# Altium integrated library TI Data Converters Digital to Analog Converter.IntLib: 1533 symbols (part 39 of 99)
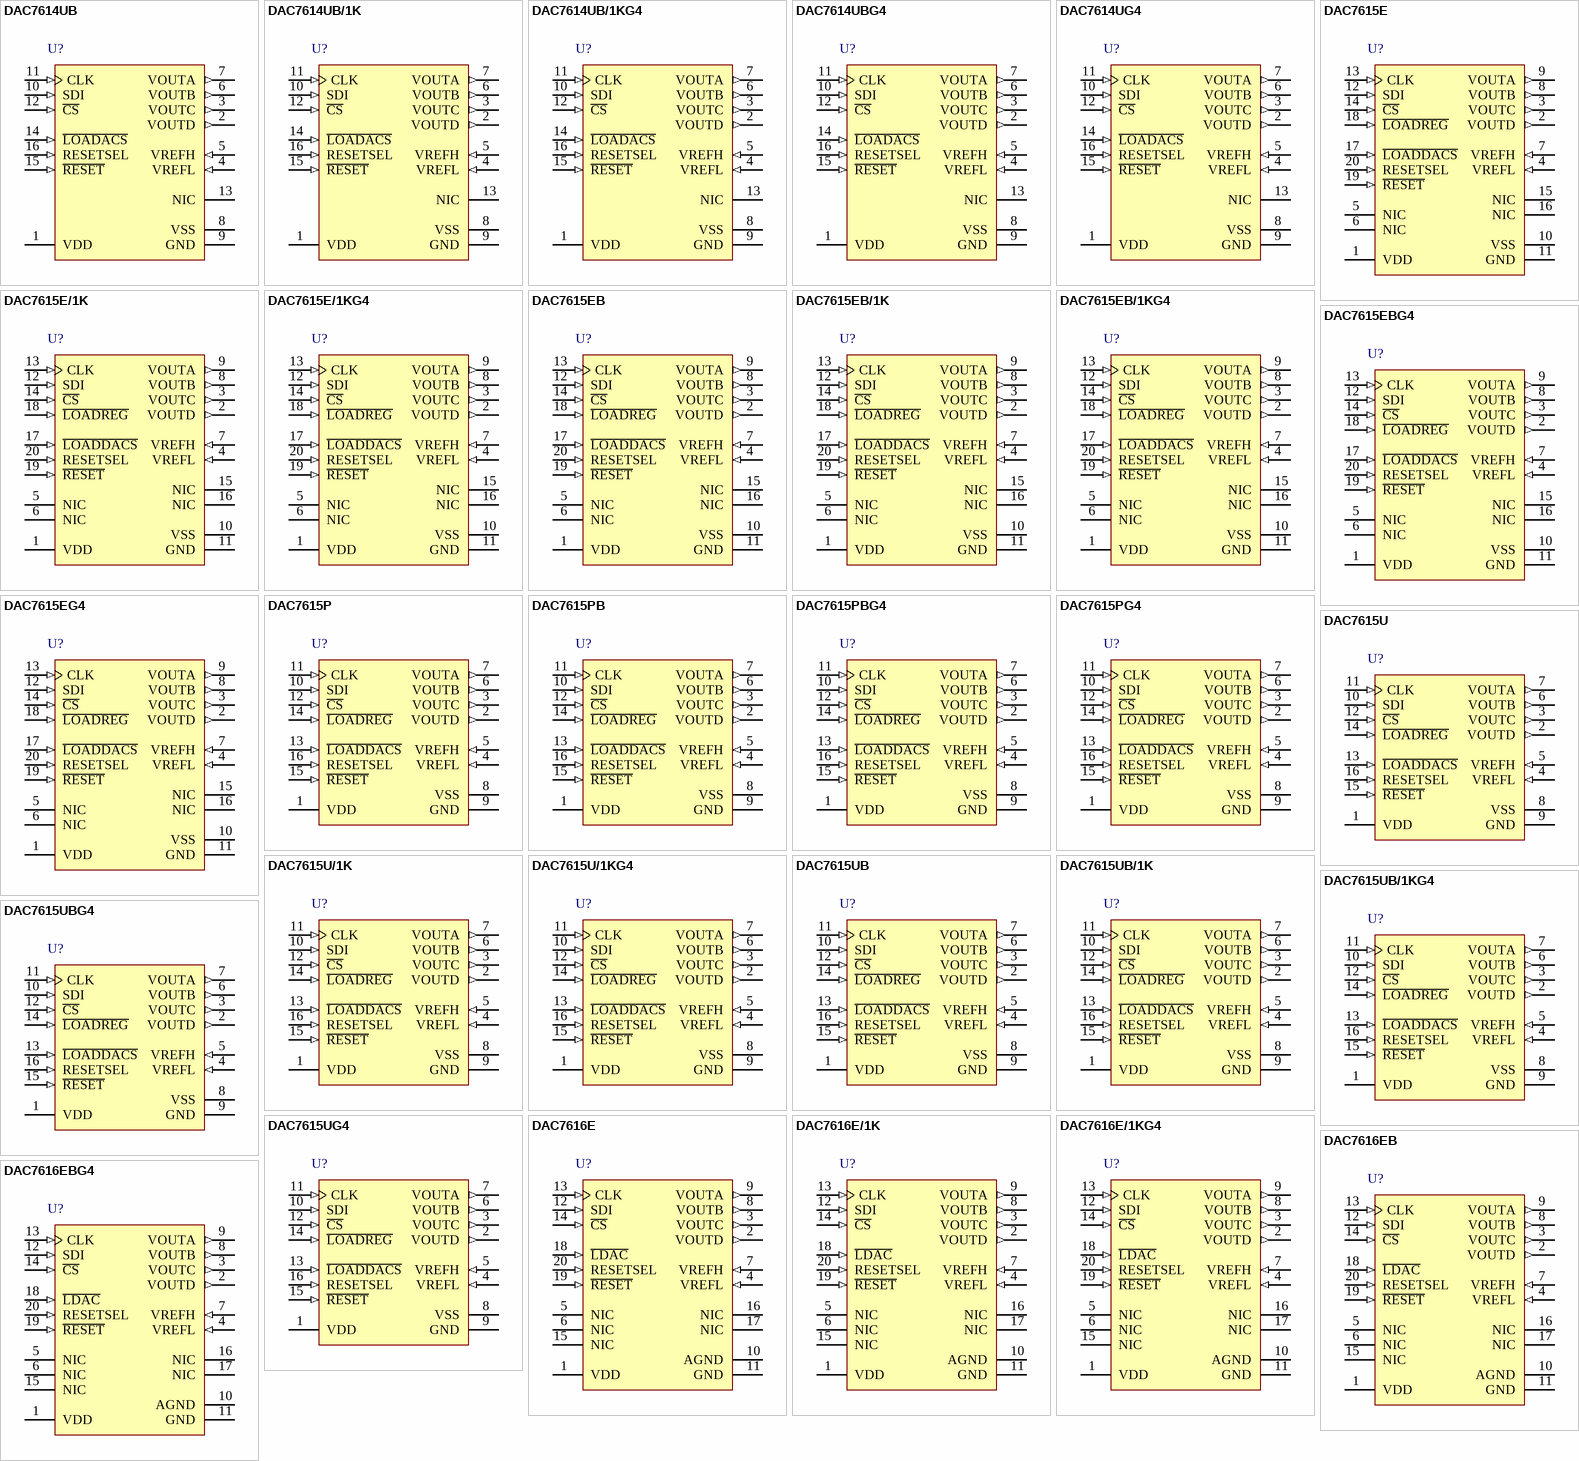
[diagram p111: symbols DAC7614UB to DAC7616EBG4]

## DAC7616E/1KG4
designator U?
Quad, Serial Input, 12-Bit, Voltage Output DAC, -40 to 85 degC, 20-pin SOP (DB20), Green (RoHS & no Sb/Br); Manufacturer: Texas Instruments; PartNumber: DAC7616E/1KG4; DAC Channels: 4; DNL(Max)(+/-LSB): 1; INL(Max)(+/-LSB): 2; Interface: Serial SPI; Power Consumption(Typ)(mW): 2.4; Resolution(Bits): 12; Settling Time(us): 10; SubFamily: Precision DAC (=<10MSPS); DatasheetVersion: SBAS186; PackageVersion: 4040065/E, 12/2001; PackageReference: DB20; PackageDescription: 20-Pin Plastic Small Outline, Body 5.3 x 7.2 mm, Pitch 0.65 mm; Supplier 1: Digi-Key; Supplier Part Number 1: DAC7616E/1KG4-ND; Supplier 2: Mouser; Supplier Part Number 2: 595-DAC7616E/1KG4; Eco-Plan: Green (RoHS & no Sb/Br); Mounting Technology: Surface Mount; Code_JEDEC: MO-150; ComponentLink1Description: Manufacturer URL; ComponentLink1URL: http://www.ti.com/; ComponentLink2Description: Datasheet; ComponentLink2URL: http://www.ti.com/general/docs/lit/getliterature.tsp?genericPartNumber=DAC7616&fileType=pdf; ComponentLink3Description: Package Specification; ComponentLink3URL: http://www.ti.com/lit/ml/msso002e/msso002e.pdf
footprint TI-DB20_N (SOP, 20-Leads, Body 7.2x5.3mm, Pitch 0.65mm, IPC Medium Density)
footprint TI-DB20_L (SOP, 20-Leads, Body 7.2x5.3mm, Pitch 0.65mm, IPC High Density)
footprint TI-DB20_M (SOP, 20-Leads, Body 7.2x5.3mm, Pitch 0.65mm, IPC Low Density)
pins: 1 VDD (power) "Positive Analog Supply Voltage, +3V nominal.", 2 VOUTD (out) "DAC D Voltage Output", 3 VOUTC (out) "DAC C Voltage Output", 4 VREFL (in) "Reference Input Voltage Low. Sets minimum output voltage for all DACs.", 5 NIC "Not Internally Connected.", 6 NIC "Not Internally Connected.", 7 VREFH (in) "Reference Input Voltage High. Sets maximum output voltage for all DACs.", 8 VOUTB (out) "DAC B Voltage Output", 9 VOUTA (out) "DAC A Voltage Output", 10 AGND (power) "Analog Ground", 11 GND (power) "Ground", 12 SDI (in) "Serial Data Input", 13 CLK (in) "Serial Data Clock", 14 ~{CS} (in) "Chip Select Input", 15 NIC "Not Internally Connected.", 16 NIC "Not Internally Connected.", 17 NIC "Not Internally Connected.", 18 ~{LDAC} (in) "All DAC registers become transparent when L\D\A\C\ is LOW. They are in the latched state when L\D\A\C\ is HIGH.", 19 ~{RESET} (in) "Asynchronous Reset Input. Sets DAC and input registers to either zero-scale (000H) or mid-scale (800H) when LOW. RESETSEL determines which code is active.", 20 RESETSEL (in) "When LOW, a LOW on R\E\S\E\T\ will cause the DAC and input registers to be set to code 000H. When RESETSEL is HIGH, a LOW on R\E\S\E\T\ will set the registers to code 800H."

## DAC7616EB
designator U?
Quad, Serial Input, 12-Bit, Voltage Output DAC, -40 to 85 degC, 20-pin SOP (DB20), Green (RoHS & no Sb/Br); Manufacturer: Texas Instruments; PartNumber: DAC7616EB; DAC Channels: 4; DNL(Max)(+/-LSB): 1; Interface: Serial SPI; Power Consumption(Typ)(mW): 2.4; Resolution(Bits): 12; Settling Time(us): 10; SubFamily: Precision DAC (=<10MSPS); DatasheetVersion: SBAS186; PackageVersion: 4040065/E, 12/2001; PackageReference: DB20; PackageDescription: 20-Pin Plastic Small Outline, Body 5.3 x 7.2 mm, Pitch 0.65 mm; Supplier 1: Digi-Key; Supplier Part Number 1: DAC7616EB-ND; Supplier 2: Mouser; Supplier Part Number 2: 595-DAC7616EB; Eco-Plan: Green (RoHS & no Sb/Br); INL(Max)(+/-LSB): 1; Mounting Technology: Surface Mount; Code_JEDEC: MO-150; ComponentLink1Description: Manufacturer URL; ComponentLink1URL: http://www.ti.com/; ComponentLink2Description: Datasheet; ComponentLink2URL: http://www.ti.com/general/docs/lit/getliterature.tsp?genericPartNumber=DAC7616&fileType=pdf; ComponentLink3Description: Package Specification; ComponentLink3URL: http://www.ti.com/lit/ml/msso002e/msso002e.pdf
footprint TI-DB20_N (SOP, 20-Leads, Body 7.2x5.3mm, Pitch 0.65mm, IPC Medium Density)
footprint TI-DB20_L (SOP, 20-Leads, Body 7.2x5.3mm, Pitch 0.65mm, IPC High Density)
footprint TI-DB20_M (SOP, 20-Leads, Body 7.2x5.3mm, Pitch 0.65mm, IPC Low Density)
pins: 1 VDD (power) "Positive Analog Supply Voltage, +3V nominal.", 2 VOUTD (out) "DAC D Voltage Output", 3 VOUTC (out) "DAC C Voltage Output", 4 VREFL (in) "Reference Input Voltage Low. Sets minimum output voltage for all DACs.", 5 NIC "Not Internally Connected.", 6 NIC "Not Internally Connected.", 7 VREFH (in) "Reference Input Voltage High. Sets maximum output voltage for all DACs.", 8 VOUTB (out) "DAC B Voltage Output", 9 VOUTA (out) "DAC A Voltage Output", 10 AGND (power) "Analog Ground", 11 GND (power) "Ground", 12 SDI (in) "Serial Data Input", 13 CLK (in) "Serial Data Clock", 14 ~{CS} (in) "Chip Select Input", 15 NIC "Not Internally Connected.", 16 NIC "Not Internally Connected.", 17 NIC "Not Internally Connected.", 18 ~{LDAC} (in) "All DAC registers become transparent when L\D\A\C\ is LOW. They are in the latched state when L\D\A\C\ is HIGH.", 19 ~{RESET} (in) "Asynchronous Reset Input. Sets DAC and input registers to either zero-scale (000H) or mid-scale (800H) when LOW. RESETSEL determines which code is active.", 20 RESETSEL (in) "When LOW, a LOW on R\E\S\E\T\ will cause the DAC and input registers to be set to code 000H. When RESETSEL is HIGH, a LOW on R\E\S\E\T\ will set the registers to code 800H."

## DAC7616EBG4
designator U?
Quad, Serial Input, 12-Bit, Voltage Output DAC, -40 to 85 degC, 20-pin SOP (DB20), Green (RoHS & no Sb/Br); Manufacturer: Texas Instruments; PartNumber: DAC7616EBG4; DAC Channels: 4; DNL(Max)(+/-LSB): 1; Interface: Serial SPI; Power Consumption(Typ)(mW): 2.4; Resolution(Bits): 12; Settling Time(us): 10; SubFamily: Precision DAC (=<10MSPS); DatasheetVersion: SBAS186; PackageVersion: 4040065/E, 12/2001; PackageReference: DB20; PackageDescription: 20-Pin Plastic Small Outline, Body 5.3 x 7.2 mm, Pitch 0.65 mm; Supplier 1: Digi-Key; Supplier Part Number 1: DAC7616EBG4-ND; Supplier 2: Mouser; Supplier Part Number 2: 595-DAC7616EBG4; Eco-Plan: Green (RoHS & no Sb/Br); INL(Max)(+/-LSB): 1; Mounting Technology: Surface Mount; Code_JEDEC: MO-150; ComponentLink1Description: Manufacturer URL; ComponentLink1URL: http://www.ti.com/; ComponentLink2Description: Datasheet; ComponentLink2URL: http://www.ti.com/general/docs/lit/getliterature.tsp?genericPartNumber=DAC7616&fileType=pdf; ComponentLink3Description: Package Specification; ComponentLink3URL: http://www.ti.com/lit/ml/msso002e/msso002e.pdf
footprint TI-DB20_N (SOP, 20-Leads, Body 7.2x5.3mm, Pitch 0.65mm, IPC Medium Density)
footprint TI-DB20_L (SOP, 20-Leads, Body 7.2x5.3mm, Pitch 0.65mm, IPC High Density)
footprint TI-DB20_M (SOP, 20-Leads, Body 7.2x5.3mm, Pitch 0.65mm, IPC Low Density)
pins: 1 VDD (power) "Positive Analog Supply Voltage, +3V nominal.", 2 VOUTD (out) "DAC D Voltage Output", 3 VOUTC (out) "DAC C Voltage Output", 4 VREFL (in) "Reference Input Voltage Low. Sets minimum output voltage for all DACs.", 5 NIC "Not Internally Connected.", 6 NIC "Not Internally Connected.", 7 VREFH (in) "Reference Input Voltage High. Sets maximum output voltage for all DACs.", 8 VOUTB (out) "DAC B Voltage Output", 9 VOUTA (out) "DAC A Voltage Output", 10 AGND (power) "Analog Ground", 11 GND (power) "Ground", 12 SDI (in) "Serial Data Input", 13 CLK (in) "Serial Data Clock", 14 ~{CS} (in) "Chip Select Input", 15 NIC "Not Internally Connected.", 16 NIC "Not Internally Connected.", 17 NIC "Not Internally Connected.", 18 ~{LDAC} (in) "All DAC registers become transparent when L\D\A\C\ is LOW. They are in the latched state when L\D\A\C\ is HIGH.", 19 ~{RESET} (in) "Asynchronous Reset Input. Sets DAC and input registers to either zero-scale (000H) or mid-scale (800H) when LOW. RESETSEL determines which code is active.", 20 RESETSEL (in) "When LOW, a LOW on R\E\S\E\T\ will cause the DAC and input registers to be set to code 000H. When RESETSEL is HIGH, a LOW on R\E\S\E\T\ will set the registers to code 800H."

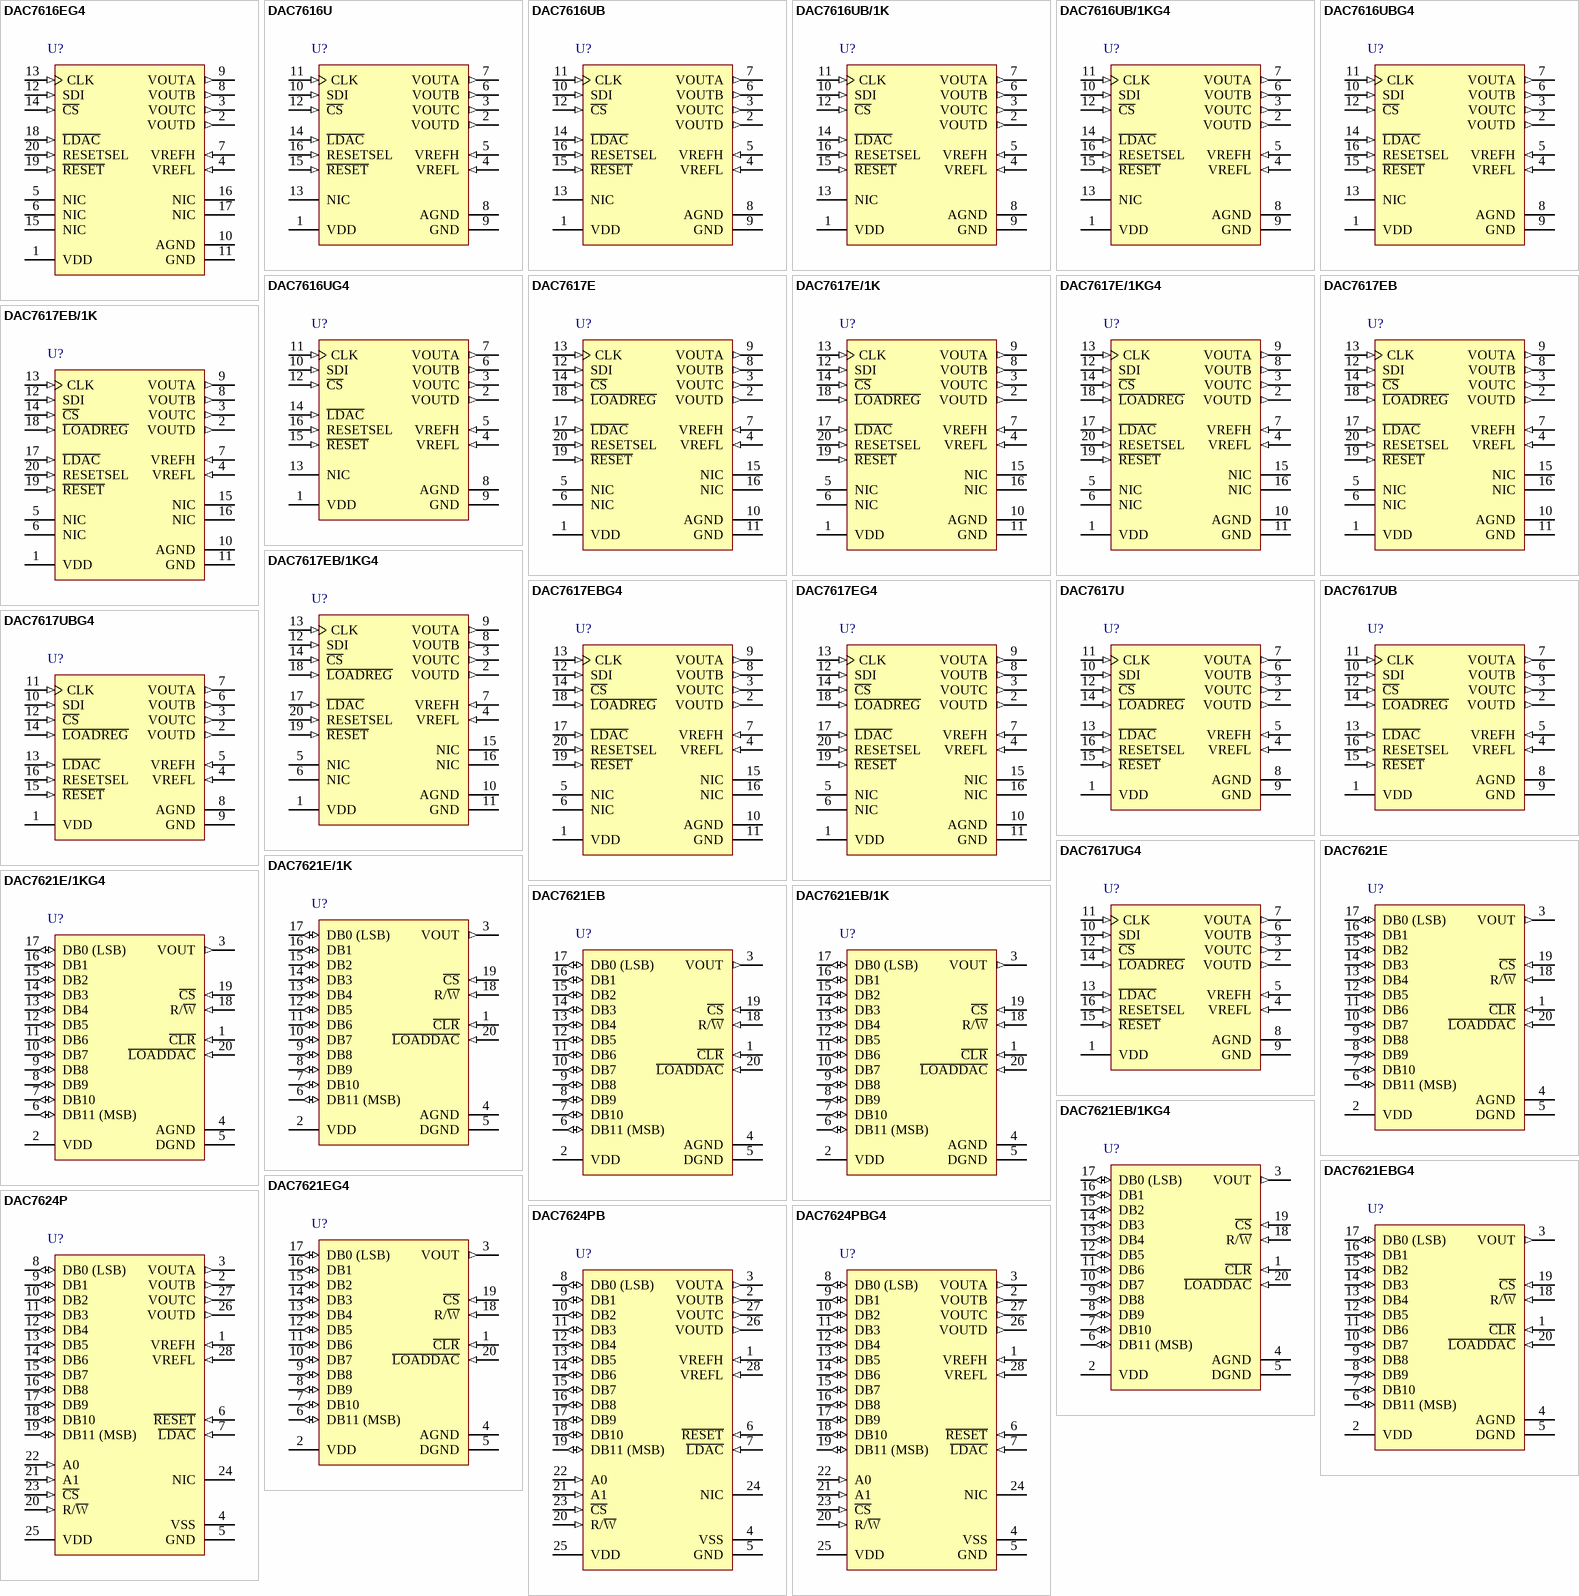
[diagram p28: symbols DAC7616EG4 to DAC7624PBG4]

## DAC7616EG4
designator U?
Quad, Serial Input, 12-Bit, Voltage Output DAC, -40 to 85 degC, 20-pin SOP (DB20), Green (RoHS & no Sb/Br); Manufacturer: Texas Instruments; PartNumber: DAC7616EG4; DAC Channels: 4; DNL(Max)(+/-LSB): 1; INL(Max)(+/-LSB): 2; Interface: Serial SPI; Power Consumption(Typ)(mW): 2.4; Resolution(Bits): 12; Settling Time(us): 10; SubFamily: Precision DAC (=<10MSPS); DatasheetVersion: SBAS186; PackageVersion: 4040065/E, 12/2001; PackageReference: DB20; PackageDescription: 20-Pin Plastic Small Outline, Body 5.3 x 7.2 mm, Pitch 0.65 mm; Supplier 1: Digi-Key; Supplier Part Number 1: DAC7616EG4-ND; Supplier 2: Mouser; Supplier Part Number 2: 595-DAC7616EG4; Eco-Plan: Green (RoHS & no Sb/Br); Mounting Technology: Surface Mount; Code_JEDEC: MO-150; ComponentLink1Description: Manufacturer URL; ComponentLink1URL: http://www.ti.com/; ComponentLink2Description: Datasheet; ComponentLink2URL: http://www.ti.com/general/docs/lit/getliterature.tsp?genericPartNumber=DAC7616&fileType=pdf; ComponentLink3Description: Package Specification; ComponentLink3URL: http://www.ti.com/lit/ml/msso002e/msso002e.pdf
footprint TI-DB20_N (SOP, 20-Leads, Body 7.2x5.3mm, Pitch 0.65mm, IPC Medium Density)
footprint TI-DB20_L (SOP, 20-Leads, Body 7.2x5.3mm, Pitch 0.65mm, IPC High Density)
footprint TI-DB20_M (SOP, 20-Leads, Body 7.2x5.3mm, Pitch 0.65mm, IPC Low Density)
pins: 1 VDD (power) "Positive Analog Supply Voltage, +3V nominal.", 2 VOUTD (out) "DAC D Voltage Output", 3 VOUTC (out) "DAC C Voltage Output", 4 VREFL (in) "Reference Input Voltage Low. Sets minimum output voltage for all DACs.", 5 NIC "Not Internally Connected.", 6 NIC "Not Internally Connected.", 7 VREFH (in) "Reference Input Voltage High. Sets maximum output voltage for all DACs.", 8 VOUTB (out) "DAC B Voltage Output", 9 VOUTA (out) "DAC A Voltage Output", 10 AGND (power) "Analog Ground", 11 GND (power) "Ground", 12 SDI (in) "Serial Data Input", 13 CLK (in) "Serial Data Clock", 14 ~{CS} (in) "Chip Select Input", 15 NIC "Not Internally Connected.", 16 NIC "Not Internally Connected.", 17 NIC "Not Internally Connected.", 18 ~{LDAC} (in) "All DAC registers become transparent when L\D\A\C\ is LOW. They are in the latched state when L\D\A\C\ is HIGH.", 19 ~{RESET} (in) "Asynchronous Reset Input. Sets DAC and input registers to either zero-scale (000H) or mid-scale (800H) when LOW. RESETSEL determines which code is active.", 20 RESETSEL (in) "When LOW, a LOW on R\E\S\E\T\ will cause the DAC and input registers to be set to code 000H. When RESETSEL is HIGH, a LOW on R\E\S\E\T\ will set the registers to code 800H."

## DAC7616U
designator U?
Quad, Serial Input, 12-Bit, Voltage Output DAC, -40 to 85 degC, 16-pin SOIC (DW16), Green (RoHS & no Sb/Br); Manufacturer: Texas Instruments; PartNumber: DAC7616U; DAC Channels: 4; DNL(Max)(+/-LSB): 1; INL(Max)(+/-LSB): 2; Interface: Serial SPI; Power Consumption(Typ)(mW): 2.4; Resolution(Bits): 12; Settling Time(us): 10; SubFamily: Precision DAC (=<10MSPS); DatasheetVersion: SBAS186; PackageVersion: 4040000-2/G, 01/2011; PackageReference: DW16; PackageDescription: 16-Pin Plastic Small Outline, Body 10.30 x 7.50 mm, Pitch 1.27 mm; Supplier 1: Digi-Key; Supplier Part Number 1: DAC7616U-ND; Supplier 2: Farnell; Supplier Part Number 2: 1460215; Supplier 3: Mouser; Supplier Part Number 3: 595-DAC7616U; Eco-Plan: Green (RoHS & no Sb/Br); Mounting Technology: Surface Mount; Code_JEDEC: MS-013; ComponentLink1Description: Manufacturer URL; ComponentLink1URL: http://www.ti.com/; ComponentLink2Description: Datasheet; ComponentLink2URL: http://www.ti.com/general/docs/lit/getliterature.tsp?genericPartNumber=DAC7616&fileType=pdf; ComponentLink3Description: Package Specification; ComponentLink3URL: http://www.ti.com/litv/pdf/msoi003g
footprint TI-DW16_N (SOIC, 16-Leads, Body 10.3x7.5mm, Pitch 1.27mm, IPC Medium Density)
footprint TI-DW16_L (SOIC, 16-Leads, Body 10.3x7.5mm, Pitch 1.27mm, IPC High Density)
footprint TI-DW16_M (SOIC, 16-Leads, Body 10.3x7.5mm, Pitch 1.27mm, IPC Low Density)
pins: 1 VDD (power) "Positive Analog Supply Voltage, +3V nominal.", 2 VOUTD (out) "DAC D Voltage Output", 3 VOUTC (out) "DAC C Voltage Output", 4 VREFL (in) "Reference Input Voltage Low. Sets minimum output voltage for all DACs.", 5 VREFH (in) "Reference Input Voltage High. Sets maximum output voltage for all DACs.", 6 VOUTB (out) "DAC B Voltage Output", 7 VOUTA (out) "DAC A Voltage Output", 8 AGND (power) "Analog Ground", 9 GND (power) "Ground", 10 SDI (in) "Serial Data Input", 11 CLK (in) "Serial Data Clock", 12 ~{CS} (in) "Chip Select Input", 13 NIC "Not Internally Connected.", 14 ~{LDAC} (in) "All DAC registers become transparent when L\D\A\C\ is LOW. They are in the latched state when L\D\A\C\ is HIGH.", 15 ~{RESET} (in) "Asynchronous Reset Input. Sets DAC and input registers to either zero-scale (000H) or mid-scale (800H) when LOW. RESETSEL determines which code is active.", 16 RESETSEL (in) "When LOW, a LOW on R\E\S\E\T\ will cause the DAC and input registers to be set to code 000H. When RESETSEL is HIGH, a LOW on R\E\S\E\T\ will set the registers to code 800H."

## DAC7616UB
designator U?
Quad, Serial Input, 12-Bit, Voltage Output DAC, -40 to 85 degC, 16-pin SOIC (DW16), Green (RoHS & no Sb/Br); Manufacturer: Texas Instruments; PartNumber: DAC7616UB; DAC Channels: 4; DNL(Max)(+/-LSB): 1; Interface: Serial SPI; Power Consumption(Typ)(mW): 2.4; Resolution(Bits): 12; Settling Time(us): 10; SubFamily: Precision DAC (=<10MSPS); DatasheetVersion: SBAS186; PackageVersion: 4040000-2/G, 01/2011; PackageReference: DW16; PackageDescription: 16-Pin Plastic Small Outline, Body 10.30 x 7.50 mm, Pitch 1.27 mm; Supplier 1: Digi-Key; Supplier Part Number 1: DAC7616UB-ND; Supplier 2: Newark; Supplier Part Number 2: 74C9193; Supplier 3: Mouser; Supplier Part Number 3: 595-DAC7616UB; Eco-Plan: Green (RoHS & no Sb/Br); INL(Max)(+/-LSB): 1; Mounting Technology: Surface Mount; Code_JEDEC: MS-013; ComponentLink1Description: Manufacturer URL; ComponentLink1URL: http://www.ti.com/; ComponentLink2Description: Datasheet; ComponentLink2URL: http://www.ti.com/general/docs/lit/getliterature.tsp?genericPartNumber=DAC7616&fileType=pdf; ComponentLink3Description: Package Specification; ComponentLink3URL: http://www.ti.com/litv/pdf/msoi003g
footprint TI-DW16_N (SOIC, 16-Leads, Body 10.3x7.5mm, Pitch 1.27mm, IPC Medium Density)
footprint TI-DW16_L (SOIC, 16-Leads, Body 10.3x7.5mm, Pitch 1.27mm, IPC High Density)
footprint TI-DW16_M (SOIC, 16-Leads, Body 10.3x7.5mm, Pitch 1.27mm, IPC Low Density)
pins: 1 VDD (power) "Positive Analog Supply Voltage, +3V nominal.", 2 VOUTD (out) "DAC D Voltage Output", 3 VOUTC (out) "DAC C Voltage Output", 4 VREFL (in) "Reference Input Voltage Low. Sets minimum output voltage for all DACs.", 5 VREFH (in) "Reference Input Voltage High. Sets maximum output voltage for all DACs.", 6 VOUTB (out) "DAC B Voltage Output", 7 VOUTA (out) "DAC A Voltage Output", 8 AGND (power) "Analog Ground", 9 GND (power) "Ground", 10 SDI (in) "Serial Data Input", 11 CLK (in) "Serial Data Clock", 12 ~{CS} (in) "Chip Select Input", 13 NIC "Not Internally Connected.", 14 ~{LDAC} (in) "All DAC registers become transparent when L\D\A\C\ is LOW. They are in the latched state when L\D\A\C\ is HIGH.", 15 ~{RESET} (in) "Asynchronous Reset Input. Sets DAC and input registers to either zero-scale (000H) or mid-scale (800H) when LOW. RESETSEL determines which code is active.", 16 RESETSEL (in) "When LOW, a LOW on R\E\S\E\T\ will cause the DAC and input registers to be set to code 000H. When RESETSEL is HIGH, a LOW on R\E\S\E\T\ will set the registers to code 800H."

## DAC7616UB/1K
designator U?
Quad, Serial Input, 12-Bit, Voltage Output DAC, -40 to 85 degC, 16-pin SOIC (DW16), Green (RoHS & no Sb/Br); Manufacturer: Texas Instruments; PartNumber: DAC7616UB/1K; DAC Channels: 4; DNL(Max)(+/-LSB): 1; Interface: Serial SPI; Power Consumption(Typ)(mW): 2.4; Resolution(Bits): 12; Settling Time(us): 10; SubFamily: Precision DAC (=<10MSPS); DatasheetVersion: SBAS186; PackageVersion: 4040000-2/G, 01/2011; PackageReference: DW16; PackageDescription: 16-Pin Plastic Small Outline, Body 10.30 x 7.50 mm, Pitch 1.27 mm; Supplier 1: Digi-Key; Supplier Part Number 1: DAC7616UB/1K-ND; Supplier 2: Mouser; Supplier Part Number 2: 595-DAC7616UB/1K; Eco-Plan: Green (RoHS & no Sb/Br); INL(Max)(+/-LSB): 1; Mounting Technology: Surface Mount; Code_JEDEC: MS-013; ComponentLink1Description: Manufacturer URL; ComponentLink1URL: http://www.ti.com/; ComponentLink2Description: Datasheet; ComponentLink2URL: http://www.ti.com/general/docs/lit/getliterature.tsp?genericPartNumber=DAC7616&fileType=pdf; ComponentLink3Description: Package Specification; ComponentLink3URL: http://www.ti.com/litv/pdf/msoi003g
footprint TI-DW16_N (SOIC, 16-Leads, Body 10.3x7.5mm, Pitch 1.27mm, IPC Medium Density)
footprint TI-DW16_L (SOIC, 16-Leads, Body 10.3x7.5mm, Pitch 1.27mm, IPC High Density)
footprint TI-DW16_M (SOIC, 16-Leads, Body 10.3x7.5mm, Pitch 1.27mm, IPC Low Density)
pins: 1 VDD (power) "Positive Analog Supply Voltage, +3V nominal.", 2 VOUTD (out) "DAC D Voltage Output", 3 VOUTC (out) "DAC C Voltage Output", 4 VREFL (in) "Reference Input Voltage Low. Sets minimum output voltage for all DACs.", 5 VREFH (in) "Reference Input Voltage High. Sets maximum output voltage for all DACs.", 6 VOUTB (out) "DAC B Voltage Output", 7 VOUTA (out) "DAC A Voltage Output", 8 AGND (power) "Analog Ground", 9 GND (power) "Ground", 10 SDI (in) "Serial Data Input", 11 CLK (in) "Serial Data Clock", 12 ~{CS} (in) "Chip Select Input", 13 NIC "Not Internally Connected.", 14 ~{LDAC} (in) "All DAC registers become transparent when L\D\A\C\ is LOW. They are in the latched state when L\D\A\C\ is HIGH.", 15 ~{RESET} (in) "Asynchronous Reset Input. Sets DAC and input registers to either zero-scale (000H) or mid-scale (800H) when LOW. RESETSEL determines which code is active.", 16 RESETSEL (in) "When LOW, a LOW on R\E\S\E\T\ will cause the DAC and input registers to be set to code 000H. When RESETSEL is HIGH, a LOW on R\E\S\E\T\ will set the registers to code 800H."

## DAC7616UB/1KG4
designator U?
Quad, Serial Input, 12-Bit, Voltage Output DAC, -40 to 85 degC, 16-pin SOIC (DW16), Green (RoHS & no Sb/Br); Manufacturer: Texas Instruments; PartNumber: DAC7616UB/1KG4; DAC Channels: 4; DNL(Max)(+/-LSB): 1; Interface: Serial SPI; Power Consumption(Typ)(mW): 2.4; Resolution(Bits): 12; Settling Time(us): 10; SubFamily: Precision DAC (=<10MSPS); DatasheetVersion: SBAS186; PackageVersion: 4040000-2/G, 01/2011; PackageReference: DW16; PackageDescription: 16-Pin Plastic Small Outline, Body 10.30 x 7.50 mm, Pitch 1.27 mm; Supplier 1: Digi-Key; Supplier Part Number 1: DAC7616UB/1KG4-ND; Supplier 2: Mouser; Supplier Part Number 2: 595-DAC7616UB/1KG4; Eco-Plan: Green (RoHS & no Sb/Br); INL(Max)(+/-LSB): 1; Mounting Technology: Surface Mount; Code_JEDEC: MS-013; ComponentLink1Description: Manufacturer URL; ComponentLink1URL: http://www.ti.com/; ComponentLink2Description: Datasheet; ComponentLink2URL: http://www.ti.com/general/docs/lit/getliterature.tsp?genericPartNumber=DAC7616&fileType=pdf; ComponentLink3Description: Package Specification; ComponentLink3URL: http://www.ti.com/litv/pdf/msoi003g
footprint TI-DW16_N (SOIC, 16-Leads, Body 10.3x7.5mm, Pitch 1.27mm, IPC Medium Density)
footprint TI-DW16_L (SOIC, 16-Leads, Body 10.3x7.5mm, Pitch 1.27mm, IPC High Density)
footprint TI-DW16_M (SOIC, 16-Leads, Body 10.3x7.5mm, Pitch 1.27mm, IPC Low Density)
pins: 1 VDD (power) "Positive Analog Supply Voltage, +3V nominal.", 2 VOUTD (out) "DAC D Voltage Output", 3 VOUTC (out) "DAC C Voltage Output", 4 VREFL (in) "Reference Input Voltage Low. Sets minimum output voltage for all DACs.", 5 VREFH (in) "Reference Input Voltage High. Sets maximum output voltage for all DACs.", 6 VOUTB (out) "DAC B Voltage Output", 7 VOUTA (out) "DAC A Voltage Output", 8 AGND (power) "Analog Ground", 9 GND (power) "Ground", 10 SDI (in) "Serial Data Input", 11 CLK (in) "Serial Data Clock", 12 ~{CS} (in) "Chip Select Input", 13 NIC "Not Internally Connected.", 14 ~{LDAC} (in) "All DAC registers become transparent when L\D\A\C\ is LOW. They are in the latched state when L\D\A\C\ is HIGH.", 15 ~{RESET} (in) "Asynchronous Reset Input. Sets DAC and input registers to either zero-scale (000H) or mid-scale (800H) when LOW. RESETSEL determines which code is active.", 16 RESETSEL (in) "When LOW, a LOW on R\E\S\E\T\ will cause the DAC and input registers to be set to code 000H. When RESETSEL is HIGH, a LOW on R\E\S\E\T\ will set the registers to code 800H."

## DAC7616UBG4
designator U?
Quad, Serial Input, 12-Bit, Voltage Output DAC, -40 to 85 degC, 16-pin SOIC (DW16), Green (RoHS & no Sb/Br); Manufacturer: Texas Instruments; PartNumber: DAC7616UBG4; DAC Channels: 4; DNL(Max)(+/-LSB): 1; Interface: Serial SPI; Power Consumption(Typ)(mW): 2.4; Resolution(Bits): 12; Settling Time(us): 10; SubFamily: Precision DAC (=<10MSPS); DatasheetVersion: SBAS186; PackageVersion: 4040000-2/G, 01/2011; PackageReference: DW16; PackageDescription: 16-Pin Plastic Small Outline, Body 10.30 x 7.50 mm, Pitch 1.27 mm; Supplier 1: Digi-Key; Supplier Part Number 1: DAC7616UBG4-ND; Supplier 2: Mouser; Supplier Part Number 2: 595-DAC7616UBG4; Eco-Plan: Green (RoHS & no Sb/Br); INL(Max)(+/-LSB): 1; Mounting Technology: Surface Mount; Code_JEDEC: MS-013; ComponentLink1Description: Manufacturer URL; ComponentLink1URL: http://www.ti.com/; ComponentLink2Description: Datasheet; ComponentLink2URL: http://www.ti.com/general/docs/lit/getliterature.tsp?genericPartNumber=DAC7616&fileType=pdf; ComponentLink3Description: Package Specification; ComponentLink3URL: http://www.ti.com/litv/pdf/msoi003g
footprint TI-DW16_N (SOIC, 16-Leads, Body 10.3x7.5mm, Pitch 1.27mm, IPC Medium Density)
footprint TI-DW16_L (SOIC, 16-Leads, Body 10.3x7.5mm, Pitch 1.27mm, IPC High Density)
footprint TI-DW16_M (SOIC, 16-Leads, Body 10.3x7.5mm, Pitch 1.27mm, IPC Low Density)
pins: 1 VDD (power) "Positive Analog Supply Voltage, +3V nominal.", 2 VOUTD (out) "DAC D Voltage Output", 3 VOUTC (out) "DAC C Voltage Output", 4 VREFL (in) "Reference Input Voltage Low. Sets minimum output voltage for all DACs.", 5 VREFH (in) "Reference Input Voltage High. Sets maximum output voltage for all DACs.", 6 VOUTB (out) "DAC B Voltage Output", 7 VOUTA (out) "DAC A Voltage Output", 8 AGND (power) "Analog Ground", 9 GND (power) "Ground", 10 SDI (in) "Serial Data Input", 11 CLK (in) "Serial Data Clock", 12 ~{CS} (in) "Chip Select Input", 13 NIC "Not Internally Connected.", 14 ~{LDAC} (in) "All DAC registers become transparent when L\D\A\C\ is LOW. They are in the latched state when L\D\A\C\ is HIGH.", 15 ~{RESET} (in) "Asynchronous Reset Input. Sets DAC and input registers to either zero-scale (000H) or mid-scale (800H) when LOW. RESETSEL determines which code is active.", 16 RESETSEL (in) "When LOW, a LOW on R\E\S\E\T\ will cause the DAC and input registers to be set to code 000H. When RESETSEL is HIGH, a LOW on R\E\S\E\T\ will set the registers to code 800H."

## DAC7616UG4
designator U?
Quad, Serial Input, 12-Bit, Voltage Output DAC, -40 to 85 degC, 16-pin SOIC (DW16), Green (RoHS & no Sb/Br); Manufacturer: Texas Instruments; PartNumber: DAC7616UG4; DAC Channels: 4; DNL(Max)(+/-LSB): 1; INL(Max)(+/-LSB): 2; Interface: Serial SPI; Power Consumption(Typ)(mW): 2.4; Resolution(Bits): 12; Settling Time(us): 10; SubFamily: Precision DAC (=<10MSPS); DatasheetVersion: SBAS186; PackageVersion: 4040000-2/G, 01/2011; PackageReference: DW16; PackageDescription: 16-Pin Plastic Small Outline, Body 10.30 x 7.50 mm, Pitch 1.27 mm; Supplier 1: Digi-Key; Supplier Part Number 1: DAC7616UG4-ND; Supplier 2: Mouser; Supplier Part Number 2: 595-DAC7616UG4; Eco-Plan: Green (RoHS & no Sb/Br); Mounting Technology: Surface Mount; Code_JEDEC: MS-013; ComponentLink1Description: Manufacturer URL; ComponentLink1URL: http://www.ti.com/; ComponentLink2Description: Datasheet; ComponentLink2URL: http://www.ti.com/general/docs/lit/getliterature.tsp?genericPartNumber=DAC7616&fileType=pdf; ComponentLink3Description: Package Specification; ComponentLink3URL: http://www.ti.com/litv/pdf/msoi003g
footprint TI-DW16_N (SOIC, 16-Leads, Body 10.3x7.5mm, Pitch 1.27mm, IPC Medium Density)
footprint TI-DW16_L (SOIC, 16-Leads, Body 10.3x7.5mm, Pitch 1.27mm, IPC High Density)
footprint TI-DW16_M (SOIC, 16-Leads, Body 10.3x7.5mm, Pitch 1.27mm, IPC Low Density)
pins: 1 VDD (power) "Positive Analog Supply Voltage, +3V nominal.", 2 VOUTD (out) "DAC D Voltage Output", 3 VOUTC (out) "DAC C Voltage Output", 4 VREFL (in) "Reference Input Voltage Low. Sets minimum output voltage for all DACs.", 5 VREFH (in) "Reference Input Voltage High. Sets maximum output voltage for all DACs.", 6 VOUTB (out) "DAC B Voltage Output", 7 VOUTA (out) "DAC A Voltage Output", 8 AGND (power) "Analog Ground", 9 GND (power) "Ground", 10 SDI (in) "Serial Data Input", 11 CLK (in) "Serial Data Clock", 12 ~{CS} (in) "Chip Select Input", 13 NIC "Not Internally Connected.", 14 ~{LDAC} (in) "All DAC registers become transparent when L\D\A\C\ is LOW. They are in the latched state when L\D\A\C\ is HIGH.", 15 ~{RESET} (in) "Asynchronous Reset Input. Sets DAC and input registers to either zero-scale (000H) or mid-scale (800H) when LOW. RESETSEL determines which code is active.", 16 RESETSEL (in) "When LOW, a LOW on R\E\S\E\T\ will cause the DAC and input registers to be set to code 000H. When RESETSEL is HIGH, a LOW on R\E\S\E\T\ will set the registers to code 800H."

## DAC7617E
designator U?
Quad, Serial Input, 12-Bit, Voltage Output DAC, -40 to 85 degC, 20-pin SOP (DB20), Green (RoHS & no Sb/Br); Manufacturer: Texas Instruments; PartNumber: DAC7617E; DAC Channels: 4; DNL(Max)(+/-LSB): 1; INL(Max)(+/-LSB): 2; Interface: Serial SPI; Power Consumption(Typ)(mW): 2.4; Resolution(Bits): 12; Settling Time(us): 10; SubFamily: Precision DAC (=<10MSPS); DatasheetVersion: SBAS185; PackageVersion: 4040065/E, 12/2001; PackageReference: DB20; PackageDescription: 20-Pin Plastic Small Outline, Body 5.3 x 7.2 mm, Pitch 0.65 mm; Supplier 1: Digi-Key; Supplier Part Number 1: DAC7617E-ND; Supplier 2: Mouser; Supplier Part Number 2: 595-DAC7617E; Eco-Plan: Green (RoHS & no Sb/Br); Mounting Technology: Surface Mount; Code_JEDEC: MO-150; ComponentLink1Description: Manufacturer URL; ComponentLink1URL: http://www.ti.com/; ComponentLink2Description: Datasheet; ComponentLink2URL: http://www.ti.com/general/docs/lit/getliterature.tsp?genericPartNumber=DAC7617&fileType=pdf; ComponentLink3Description: Package Specification; ComponentLink3URL: http://www.ti.com/lit/ml/msso002e/msso002e.pdf
footprint TI-DB20_N (SOP, 20-Leads, Body 7.2x5.3mm, Pitch 0.65mm, IPC Medium Density)
footprint TI-DB20_L (SOP, 20-Leads, Body 7.2x5.3mm, Pitch 0.65mm, IPC High Density)
footprint TI-DB20_M (SOP, 20-Leads, Body 7.2x5.3mm, Pitch 0.65mm, IPC Low Density)
pins: 1 VDD (power) "Positive Analog Supply Voltage, +3V nominal.", 2 VOUTD (out) "DAC D Voltage Output", 3 VOUTC (out) "DAC C Voltage Output", 4 VREFL (in) "Reference Input Voltage Low. Sets minimum output voltage for all DACs.", 5 NIC "Not Internally Connected.", 6 NIC "Not Internally Connected.", 7 VREFH (in) "Reference Input Voltage High. Sets maximum output voltage for all DACs.", 8 VOUTB (out) "DAC B Voltage Output", 9 VOUTA (out) "DAC A Voltage Output", 10 AGND (power) "Analog Ground", 11 GND (power) "Ground", 12 SDI (in) "Serial Data Input", 13 CLK (in) "Serial Data Clock", 14 ~{CS} (in) "Chip Select Input", 15 NIC "Not Internally Connected.", 16 NIC "Not Internally Connected.", 17 ~{LDAC} (in) "All DAC registers becomes transparent when L\D\A\C\ is LOW. They are in the latched state when L\D\A\C\ is HIGH.", 18 ~{LOADREG} (in) "The selected input register becomes transparent when L\O\A\D\R\E\G\ is LOW. It is in the latched state when L\O\A\D\R\E\G\ is HIGH.", 19 ~{RESET} (in) "Asynchronous Reset Input. Sets all DAC registers to either zero-scale (000H) or mid-scale (800H) when LOW. RESETSEL determines which code is active.", 20 RESETSEL (in) "When LOW, a LOW on R\E\S\E\T\ will cause all DAC registers to be set to code 000H. When RESETSEL is HIGH, a LOW on R\E\S\E\T\ will set the registers to code 800H."

## DAC7617E/1K
designator U?
Quad, Serial Input, 12-Bit, Voltage Output DAC, -40 to 85 degC, 20-pin SOP (DB20), Green (RoHS & no Sb/Br); Manufacturer: Texas Instruments; PartNumber: DAC7617E/1K; DAC Channels: 4; DNL(Max)(+/-LSB): 1; INL(Max)(+/-LSB): 2; Interface: Serial SPI; Power Consumption(Typ)(mW): 2.4; Resolution(Bits): 12; Settling Time(us): 10; SubFamily: Precision DAC (=<10MSPS); DatasheetVersion: SBAS185; PackageVersion: 4040065/E, 12/2001; PackageReference: DB20; PackageDescription: 20-Pin Plastic Small Outline, Body 5.3 x 7.2 mm, Pitch 0.65 mm; Supplier 1: Digi-Key; Supplier Part Number 1: DAC7617E/1K-ND; Supplier 2: Mouser; Supplier Part Number 2: 595-DAC7617E/1K; Eco-Plan: Green (RoHS & no Sb/Br); Mounting Technology: Surface Mount; Code_JEDEC: MO-150; ComponentLink1Description: Manufacturer URL; ComponentLink1URL: http://www.ti.com/; ComponentLink2Description: Datasheet; ComponentLink2URL: http://www.ti.com/general/docs/lit/getliterature.tsp?genericPartNumber=DAC7617&fileType=pdf; ComponentLink3Description: Package Specification; ComponentLink3URL: http://www.ti.com/lit/ml/msso002e/msso002e.pdf
footprint TI-DB20_N (SOP, 20-Leads, Body 7.2x5.3mm, Pitch 0.65mm, IPC Medium Density)
footprint TI-DB20_L (SOP, 20-Leads, Body 7.2x5.3mm, Pitch 0.65mm, IPC High Density)
footprint TI-DB20_M (SOP, 20-Leads, Body 7.2x5.3mm, Pitch 0.65mm, IPC Low Density)
pins: 1 VDD (power) "Positive Analog Supply Voltage, +3V nominal.", 2 VOUTD (out) "DAC D Voltage Output", 3 VOUTC (out) "DAC C Voltage Output", 4 VREFL (in) "Reference Input Voltage Low. Sets minimum output voltage for all DACs.", 5 NIC "Not Internally Connected.", 6 NIC "Not Internally Connected.", 7 VREFH (in) "Reference Input Voltage High. Sets maximum output voltage for all DACs.", 8 VOUTB (out) "DAC B Voltage Output", 9 VOUTA (out) "DAC A Voltage Output", 10 AGND (power) "Analog Ground", 11 GND (power) "Ground", 12 SDI (in) "Serial Data Input", 13 CLK (in) "Serial Data Clock", 14 ~{CS} (in) "Chip Select Input", 15 NIC "Not Internally Connected.", 16 NIC "Not Internally Connected.", 17 ~{LDAC} (in) "All DAC registers becomes transparent when L\D\A\C\ is LOW. They are in the latched state when L\D\A\C\ is HIGH.", 18 ~{LOADREG} (in) "The selected input register becomes transparent when L\O\A\D\R\E\G\ is LOW. It is in the latched state when L\O\A\D\R\E\G\ is HIGH.", 19 ~{RESET} (in) "Asynchronous Reset Input. Sets all DAC registers to either zero-scale (000H) or mid-scale (800H) when LOW. RESETSEL determines which code is active.", 20 RESETSEL (in) "When LOW, a LOW on R\E\S\E\T\ will cause all DAC registers to be set to code 000H. When RESETSEL is HIGH, a LOW on R\E\S\E\T\ will set the registers to code 800H."

## DAC7617E/1KG4
designator U?
Quad, Serial Input, 12-Bit, Voltage Output DAC, -40 to 85 degC, 20-pin SOP (DB20), Green (RoHS & no Sb/Br); Manufacturer: Texas Instruments; PartNumber: DAC7617E/1KG4; DAC Channels: 4; DNL(Max)(+/-LSB): 1; INL(Max)(+/-LSB): 2; Interface: Serial SPI; Power Consumption(Typ)(mW): 2.4; Resolution(Bits): 12; Settling Time(us): 10; SubFamily: Precision DAC (=<10MSPS); DatasheetVersion: SBAS185; PackageVersion: 4040065/E, 12/2001; PackageReference: DB20; PackageDescription: 20-Pin Plastic Small Outline, Body 5.3 x 7.2 mm, Pitch 0.65 mm; Supplier 1: Digi-Key; Supplier Part Number 1: DAC7617E/1KG4-ND; Supplier 2: Mouser; Supplier Part Number 2: 595-DAC7617E/1KG4; Eco-Plan: Green (RoHS & no Sb/Br); Mounting Technology: Surface Mount; Code_JEDEC: MO-150; ComponentLink1Description: Manufacturer URL; ComponentLink1URL: http://www.ti.com/; ComponentLink2Description: Datasheet; ComponentLink2URL: http://www.ti.com/general/docs/lit/getliterature.tsp?genericPartNumber=DAC7617&fileType=pdf; ComponentLink3Description: Package Specification; ComponentLink3URL: http://www.ti.com/lit/ml/msso002e/msso002e.pdf
footprint TI-DB20_N (SOP, 20-Leads, Body 7.2x5.3mm, Pitch 0.65mm, IPC Medium Density)
footprint TI-DB20_L (SOP, 20-Leads, Body 7.2x5.3mm, Pitch 0.65mm, IPC High Density)
footprint TI-DB20_M (SOP, 20-Leads, Body 7.2x5.3mm, Pitch 0.65mm, IPC Low Density)
pins: 1 VDD (power) "Positive Analog Supply Voltage, +3V nominal.", 2 VOUTD (out) "DAC D Voltage Output", 3 VOUTC (out) "DAC C Voltage Output", 4 VREFL (in) "Reference Input Voltage Low. Sets minimum output voltage for all DACs.", 5 NIC "Not Internally Connected.", 6 NIC "Not Internally Connected.", 7 VREFH (in) "Reference Input Voltage High. Sets maximum output voltage for all DACs.", 8 VOUTB (out) "DAC B Voltage Output", 9 VOUTA (out) "DAC A Voltage Output", 10 AGND (power) "Analog Ground", 11 GND (power) "Ground", 12 SDI (in) "Serial Data Input", 13 CLK (in) "Serial Data Clock", 14 ~{CS} (in) "Chip Select Input", 15 NIC "Not Internally Connected.", 16 NIC "Not Internally Connected.", 17 ~{LDAC} (in) "All DAC registers becomes transparent when L\D\A\C\ is LOW. They are in the latched state when L\D\A\C\ is HIGH.", 18 ~{LOADREG} (in) "The selected input register becomes transparent when L\O\A\D\R\E\G\ is LOW. It is in the latched state when L\O\A\D\R\E\G\ is HIGH.", 19 ~{RESET} (in) "Asynchronous Reset Input. Sets all DAC registers to either zero-scale (000H) or mid-scale (800H) when LOW. RESETSEL determines which code is active.", 20 RESETSEL (in) "When LOW, a LOW on R\E\S\E\T\ will cause all DAC registers to be set to code 000H. When RESETSEL is HIGH, a LOW on R\E\S\E\T\ will set the registers to code 800H."

## DAC7617EB
designator U?
Quad, Serial Input, 12-Bit, Voltage Output DAC, -40 to 85 degC, 20-pin SOP (DB20), Green (RoHS & no Sb/Br); Manufacturer: Texas Instruments; PartNumber: DAC7617EB; DAC Channels: 4; DNL(Max)(+/-LSB): 1; Interface: Serial SPI; Power Consumption(Typ)(mW): 2.4; Resolution(Bits): 12; Settling Time(us): 10; SubFamily: Precision DAC (=<10MSPS); DatasheetVersion: SBAS185; PackageVersion: 4040065/E, 12/2001; PackageReference: DB20; PackageDescription: 20-Pin Plastic Small Outline, Body 5.3 x 7.2 mm, Pitch 0.65 mm; Supplier 1: Digi-Key; Supplier Part Number 1: DAC7617EB-ND; Supplier 2: Mouser; Supplier Part Number 2: 595-DAC7617EB; Eco-Plan: Green (RoHS & no Sb/Br); INL(Max)(+/-LSB): 1; Mounting Technology: Surface Mount; Code_JEDEC: MO-150; ComponentLink1Description: Manufacturer URL; ComponentLink1URL: http://www.ti.com/; ComponentLink2Description: Datasheet; ComponentLink2URL: http://www.ti.com/general/docs/lit/getliterature.tsp?genericPartNumber=DAC7617&fileType=pdf; ComponentLink3Description: Package Specification; ComponentLink3URL: http://www.ti.com/lit/ml/msso002e/msso002e.pdf
footprint TI-DB20_N (SOP, 20-Leads, Body 7.2x5.3mm, Pitch 0.65mm, IPC Medium Density)
footprint TI-DB20_L (SOP, 20-Leads, Body 7.2x5.3mm, Pitch 0.65mm, IPC High Density)
footprint TI-DB20_M (SOP, 20-Leads, Body 7.2x5.3mm, Pitch 0.65mm, IPC Low Density)
pins: 1 VDD (power) "Positive Analog Supply Voltage, +3V nominal.", 2 VOUTD (out) "DAC D Voltage Output", 3 VOUTC (out) "DAC C Voltage Output", 4 VREFL (in) "Reference Input Voltage Low. Sets minimum output voltage for all DACs.", 5 NIC "Not Internally Connected.", 6 NIC "Not Internally Connected.", 7 VREFH (in) "Reference Input Voltage High. Sets maximum output voltage for all DACs.", 8 VOUTB (out) "DAC B Voltage Output", 9 VOUTA (out) "DAC A Voltage Output", 10 AGND (power) "Analog Ground", 11 GND (power) "Ground", 12 SDI (in) "Serial Data Input", 13 CLK (in) "Serial Data Clock", 14 ~{CS} (in) "Chip Select Input", 15 NIC "Not Internally Connected.", 16 NIC "Not Internally Connected.", 17 ~{LDAC} (in) "All DAC registers becomes transparent when L\D\A\C\ is LOW. They are in the latched state when L\D\A\C\ is HIGH.", 18 ~{LOADREG} (in) "The selected input register becomes transparent when L\O\A\D\R\E\G\ is LOW. It is in the latched state when L\O\A\D\R\E\G\ is HIGH.", 19 ~{RESET} (in) "Asynchronous Reset Input. Sets all DAC registers to either zero-scale (000H) or mid-scale (800H) when LOW. RESETSEL determines which code is active.", 20 RESETSEL (in) "When LOW, a LOW on R\E\S\E\T\ will cause all DAC registers to be set to code 000H. When RESETSEL is HIGH, a LOW on R\E\S\E\T\ will set the registers to code 800H."

## DAC7617EB/1K
designator U?
Quad, Serial Input, 12-Bit, Voltage Output DAC, -40 to 85 degC, 20-pin SOP (DB20), Green (RoHS & no Sb/Br); Manufacturer: Texas Instruments; PartNumber: DAC7617EB/1K; DAC Channels: 4; DNL(Max)(+/-LSB): 1; Interface: Serial SPI; Power Consumption(Typ)(mW): 2.4; Resolution(Bits): 12; Settling Time(us): 10; SubFamily: Precision DAC (=<10MSPS); DatasheetVersion: SBAS185; PackageVersion: 4040065/E, 12/2001; PackageReference: DB20; PackageDescription: 20-Pin Plastic Small Outline, Body 5.3 x 7.2 mm, Pitch 0.65 mm; Supplier 1: Digi-Key; Supplier Part Number 1: DAC7617EB/1K-ND; Supplier 2: Mouser; Supplier Part Number 2: 595-DAC7617EB/1K; Eco-Plan: Green (RoHS & no Sb/Br); INL(Max)(+/-LSB): 1; Mounting Technology: Surface Mount; Code_JEDEC: MO-150; ComponentLink1Description: Manufacturer URL; ComponentLink1URL: http://www.ti.com/; ComponentLink2Description: Datasheet; ComponentLink2URL: http://www.ti.com/general/docs/lit/getliterature.tsp?genericPartNumber=DAC7617&fileType=pdf; ComponentLink3Description: Package Specification; ComponentLink3URL: http://www.ti.com/lit/ml/msso002e/msso002e.pdf
footprint TI-DB20_N (SOP, 20-Leads, Body 7.2x5.3mm, Pitch 0.65mm, IPC Medium Density)
footprint TI-DB20_L (SOP, 20-Leads, Body 7.2x5.3mm, Pitch 0.65mm, IPC High Density)
footprint TI-DB20_M (SOP, 20-Leads, Body 7.2x5.3mm, Pitch 0.65mm, IPC Low Density)
pins: 1 VDD (power) "Positive Analog Supply Voltage, +3V nominal.", 2 VOUTD (out) "DAC D Voltage Output", 3 VOUTC (out) "DAC C Voltage Output", 4 VREFL (in) "Reference Input Voltage Low. Sets minimum output voltage for all DACs.", 5 NIC "Not Internally Connected.", 6 NIC "Not Internally Connected.", 7 VREFH (in) "Reference Input Voltage High. Sets maximum output voltage for all DACs.", 8 VOUTB (out) "DAC B Voltage Output", 9 VOUTA (out) "DAC A Voltage Output", 10 AGND (power) "Analog Ground", 11 GND (power) "Ground", 12 SDI (in) "Serial Data Input", 13 CLK (in) "Serial Data Clock", 14 ~{CS} (in) "Chip Select Input", 15 NIC "Not Internally Connected.", 16 NIC "Not Internally Connected.", 17 ~{LDAC} (in) "All DAC registers becomes transparent when L\D\A\C\ is LOW. They are in the latched state when L\D\A\C\ is HIGH.", 18 ~{LOADREG} (in) "The selected input register becomes transparent when L\O\A\D\R\E\G\ is LOW. It is in the latched state when L\O\A\D\R\E\G\ is HIGH.", 19 ~{RESET} (in) "Asynchronous Reset Input. Sets all DAC registers to either zero-scale (000H) or mid-scale (800H) when LOW. RESETSEL determines which code is active.", 20 RESETSEL (in) "When LOW, a LOW on R\E\S\E\T\ will cause all DAC registers to be set to code 000H. When RESETSEL is HIGH, a LOW on R\E\S\E\T\ will set the registers to code 800H."

## DAC7617EB/1KG4
designator U?
Quad, Serial Input, 12-Bit, Voltage Output DAC, -40 to 85 degC, 20-pin SOP (DB20), Green (RoHS & no Sb/Br); Manufacturer: Texas Instruments; PartNumber: DAC7617EB/1KG4; DAC Channels: 4; DNL(Max)(+/-LSB): 1; Interface: Serial SPI; Power Consumption(Typ)(mW): 2.4; Resolution(Bits): 12; Settling Time(us): 10; SubFamily: Precision DAC (=<10MSPS); DatasheetVersion: SBAS185; PackageVersion: 4040065/E, 12/2001; PackageReference: DB20; PackageDescription: 20-Pin Plastic Small Outline, Body 5.3 x 7.2 mm, Pitch 0.65 mm; Supplier 1: Digi-Key; Supplier Part Number 1: DAC7617EB/1KG4-ND; Supplier 2: Mouser; Supplier Part Number 2: 595-DAC7617EB/1KG4; Eco-Plan: Green (RoHS & no Sb/Br); INL(Max)(+/-LSB): 1; Mounting Technology: Surface Mount; Code_JEDEC: MO-150; ComponentLink1Description: Manufacturer URL; ComponentLink1URL: http://www.ti.com/; ComponentLink2Description: Datasheet; ComponentLink2URL: http://www.ti.com/general/docs/lit/getliterature.tsp?genericPartNumber=DAC7617&fileType=pdf; ComponentLink3Description: Package Specification; ComponentLink3URL: http://www.ti.com/lit/ml/msso002e/msso002e.pdf
footprint TI-DB20_N (SOP, 20-Leads, Body 7.2x5.3mm, Pitch 0.65mm, IPC Medium Density)
footprint TI-DB20_L (SOP, 20-Leads, Body 7.2x5.3mm, Pitch 0.65mm, IPC High Density)
footprint TI-DB20_M (SOP, 20-Leads, Body 7.2x5.3mm, Pitch 0.65mm, IPC Low Density)
pins: 1 VDD (power) "Positive Analog Supply Voltage, +3V nominal.", 2 VOUTD (out) "DAC D Voltage Output", 3 VOUTC (out) "DAC C Voltage Output", 4 VREFL (in) "Reference Input Voltage Low. Sets minimum output voltage for all DACs.", 5 NIC "Not Internally Connected.", 6 NIC "Not Internally Connected.", 7 VREFH (in) "Reference Input Voltage High. Sets maximum output voltage for all DACs.", 8 VOUTB (out) "DAC B Voltage Output", 9 VOUTA (out) "DAC A Voltage Output", 10 AGND (power) "Analog Ground", 11 GND (power) "Ground", 12 SDI (in) "Serial Data Input", 13 CLK (in) "Serial Data Clock", 14 ~{CS} (in) "Chip Select Input", 15 NIC "Not Internally Connected.", 16 NIC "Not Internally Connected.", 17 ~{LDAC} (in) "All DAC registers becomes transparent when L\D\A\C\ is LOW. They are in the latched state when L\D\A\C\ is HIGH.", 18 ~{LOADREG} (in) "The selected input register becomes transparent when L\O\A\D\R\E\G\ is LOW. It is in the latched state when L\O\A\D\R\E\G\ is HIGH.", 19 ~{RESET} (in) "Asynchronous Reset Input. Sets all DAC registers to either zero-scale (000H) or mid-scale (800H) when LOW. RESETSEL determines which code is active.", 20 RESETSEL (in) "When LOW, a LOW on R\E\S\E\T\ will cause all DAC registers to be set to code 000H. When RESETSEL is HIGH, a LOW on R\E\S\E\T\ will set the registers to code 800H."

## DAC7617EBG4
designator U?
Quad, Serial Input, 12-Bit, Voltage Output DAC, -40 to 85 degC, 20-pin SOP (DB20), Green (RoHS & no Sb/Br); Manufacturer: Texas Instruments; PartNumber: DAC7617EBG4; DAC Channels: 4; DNL(Max)(+/-LSB): 1; Interface: Serial SPI; Power Consumption(Typ)(mW): 2.4; Resolution(Bits): 12; Settling Time(us): 10; SubFamily: Precision DAC (=<10MSPS); DatasheetVersion: SBAS185; PackageVersion: 4040065/E, 12/2001; PackageReference: DB20; PackageDescription: 20-Pin Plastic Small Outline, Body 5.3 x 7.2 mm, Pitch 0.65 mm; Supplier 1: Digi-Key; Supplier Part Number 1: DAC7617EBG4-ND; Supplier 2: Mouser; Supplier Part Number 2: 595-DAC7617EBG4; Eco-Plan: Green (RoHS & no Sb/Br); INL(Max)(+/-LSB): 1; Mounting Technology: Surface Mount; Code_JEDEC: MO-150; ComponentLink1Description: Manufacturer URL; ComponentLink1URL: http://www.ti.com/; ComponentLink2Description: Datasheet; ComponentLink2URL: http://www.ti.com/general/docs/lit/getliterature.tsp?genericPartNumber=DAC7617&fileType=pdf; ComponentLink3Description: Package Specification; ComponentLink3URL: http://www.ti.com/lit/ml/msso002e/msso002e.pdf
footprint TI-DB20_N (SOP, 20-Leads, Body 7.2x5.3mm, Pitch 0.65mm, IPC Medium Density)
footprint TI-DB20_L (SOP, 20-Leads, Body 7.2x5.3mm, Pitch 0.65mm, IPC High Density)
footprint TI-DB20_M (SOP, 20-Leads, Body 7.2x5.3mm, Pitch 0.65mm, IPC Low Density)
pins: 1 VDD (power) "Positive Analog Supply Voltage, +3V nominal.", 2 VOUTD (out) "DAC D Voltage Output", 3 VOUTC (out) "DAC C Voltage Output", 4 VREFL (in) "Reference Input Voltage Low. Sets minimum output voltage for all DACs.", 5 NIC "Not Internally Connected.", 6 NIC "Not Internally Connected.", 7 VREFH (in) "Reference Input Voltage High. Sets maximum output voltage for all DACs.", 8 VOUTB (out) "DAC B Voltage Output", 9 VOUTA (out) "DAC A Voltage Output", 10 AGND (power) "Analog Ground", 11 GND (power) "Ground", 12 SDI (in) "Serial Data Input", 13 CLK (in) "Serial Data Clock", 14 ~{CS} (in) "Chip Select Input", 15 NIC "Not Internally Connected.", 16 NIC "Not Internally Connected.", 17 ~{LDAC} (in) "All DAC registers becomes transparent when L\D\A\C\ is LOW. They are in the latched state when L\D\A\C\ is HIGH.", 18 ~{LOADREG} (in) "The selected input register becomes transparent when L\O\A\D\R\E\G\ is LOW. It is in the latched state when L\O\A\D\R\E\G\ is HIGH.", 19 ~{RESET} (in) "Asynchronous Reset Input. Sets all DAC registers to either zero-scale (000H) or mid-scale (800H) when LOW. RESETSEL determines which code is active.", 20 RESETSEL (in) "When LOW, a LOW on R\E\S\E\T\ will cause all DAC registers to be set to code 000H. When RESETSEL is HIGH, a LOW on R\E\S\E\T\ will set the registers to code 800H."

## DAC7617EG4
designator U?
Quad, Serial Input, 12-Bit, Voltage Output DAC, -40 to 85 degC, 20-pin SOP (DB20), Green (RoHS & no Sb/Br); Manufacturer: Texas Instruments; PartNumber: DAC7617EG4; DAC Channels: 4; DNL(Max)(+/-LSB): 1; INL(Max)(+/-LSB): 2; Interface: Serial SPI; Power Consumption(Typ)(mW): 2.4; Resolution(Bits): 12; Settling Time(us): 10; SubFamily: Precision DAC (=<10MSPS); DatasheetVersion: SBAS185; PackageVersion: 4040065/E, 12/2001; PackageReference: DB20; PackageDescription: 20-Pin Plastic Small Outline, Body 5.3 x 7.2 mm, Pitch 0.65 mm; Supplier 1: Digi-Key; Supplier Part Number 1: DAC7617EG4-ND; Supplier 2: Mouser; Supplier Part Number 2: 595-DAC7617EG4; Eco-Plan: Green (RoHS & no Sb/Br); Mounting Technology: Surface Mount; Code_JEDEC: MO-150; ComponentLink1Description: Manufacturer URL; ComponentLink1URL: http://www.ti.com/; ComponentLink2Description: Datasheet; ComponentLink2URL: http://www.ti.com/general/docs/lit/getliterature.tsp?genericPartNumber=DAC7617&fileType=pdf; ComponentLink3Description: Package Specification; ComponentLink3URL: http://www.ti.com/lit/ml/msso002e/msso002e.pdf
footprint TI-DB20_N (SOP, 20-Leads, Body 7.2x5.3mm, Pitch 0.65mm, IPC Medium Density)
footprint TI-DB20_L (SOP, 20-Leads, Body 7.2x5.3mm, Pitch 0.65mm, IPC High Density)
footprint TI-DB20_M (SOP, 20-Leads, Body 7.2x5.3mm, Pitch 0.65mm, IPC Low Density)
pins: 1 VDD (power) "Positive Analog Supply Voltage, +3V nominal.", 2 VOUTD (out) "DAC D Voltage Output", 3 VOUTC (out) "DAC C Voltage Output", 4 VREFL (in) "Reference Input Voltage Low. Sets minimum output voltage for all DACs.", 5 NIC "Not Internally Connected.", 6 NIC "Not Internally Connected.", 7 VREFH (in) "Reference Input Voltage High. Sets maximum output voltage for all DACs.", 8 VOUTB (out) "DAC B Voltage Output", 9 VOUTA (out) "DAC A Voltage Output", 10 AGND (power) "Analog Ground", 11 GND (power) "Ground", 12 SDI (in) "Serial Data Input", 13 CLK (in) "Serial Data Clock", 14 ~{CS} (in) "Chip Select Input", 15 NIC "Not Internally Connected.", 16 NIC "Not Internally Connected.", 17 ~{LDAC} (in) "All DAC registers becomes transparent when L\D\A\C\ is LOW. They are in the latched state when L\D\A\C\ is HIGH.", 18 ~{LOADREG} (in) "The selected input register becomes transparent when L\O\A\D\R\E\G\ is LOW. It is in the latched state when L\O\A\D\R\E\G\ is HIGH.", 19 ~{RESET} (in) "Asynchronous Reset Input. Sets all DAC registers to either zero-scale (000H) or mid-scale (800H) when LOW. RESETSEL determines which code is active.", 20 RESETSEL (in) "When LOW, a LOW on R\E\S\E\T\ will cause all DAC registers to be set to code 000H. When RESETSEL is HIGH, a LOW on R\E\S\E\T\ will set the registers to code 800H."

## DAC7617U
designator U?
Quad, Serial Input, 12-Bit, Voltage Output DAC, -40 to 85 degC, 16-pin SOIC (DW16), Green (RoHS & no Sb/Br); Manufacturer: Texas Instruments; PartNumber: DAC7617U; DAC Channels: 4; DNL(Max)(+/-LSB): 1; INL(Max)(+/-LSB): 2; Interface: Serial SPI; Power Consumption(Typ)(mW): 2.4; Resolution(Bits): 12; Settling Time(us): 10; SubFamily: Precision DAC (=<10MSPS); DatasheetVersion: SBAS185; PackageVersion: 4040000-2/G, 01/2011; PackageReference: DW16; PackageDescription: 16-Pin Plastic Small Outline, Body 10.30 x 7.50 mm, Pitch 1.27 mm; Supplier 1: Digi-Key; Supplier Part Number 1: DAC7617U-ND; Supplier 2: Mouser; Supplier Part Number 2: 595-DAC7617U; Eco-Plan: Green (RoHS & no Sb/Br); Mounting Technology: Surface Mount; Code_JEDEC: MS-013; ComponentLink1Description: Manufacturer URL; ComponentLink1URL: http://www.ti.com/; ComponentLink2Description: Datasheet; ComponentLink2URL: http://www.ti.com/general/docs/lit/getliterature.tsp?genericPartNumber=DAC7617&fileType=pdf; ComponentLink3Description: Package Specification; ComponentLink3URL: http://www.ti.com/litv/pdf/msoi003g
footprint TI-DW16_N (SOIC, 16-Leads, Body 10.3x7.5mm, Pitch 1.27mm, IPC Medium Density)
footprint TI-DW16_L (SOIC, 16-Leads, Body 10.3x7.5mm, Pitch 1.27mm, IPC High Density)
footprint TI-DW16_M (SOIC, 16-Leads, Body 10.3x7.5mm, Pitch 1.27mm, IPC Low Density)
pins: 1 VDD (power) "Positive Analog Supply Voltage, +3V nominal.", 2 VOUTD (out) "DAC D Voltage Output", 3 VOUTC (out) "DAC C Voltage Output", 4 VREFL (in) "Reference Input Voltage Low. Sets minimum output voltage for all DACs.", 5 VREFH (in) "Reference Input Voltage High. Sets maximum output voltage for all DACs.", 6 VOUTB (out) "DAC B Voltage Output", 7 VOUTA (out) "DAC A Voltage Output", 8 AGND (power) "Analog Ground", 9 GND (power) "Ground", 10 SDI (in) "Serial Data Input", 11 CLK (in) "Serial Data Clock", 12 ~{CS} (in) "Chip Select Input", 13 ~{LDAC} (in) "All DAC registers become transparent when L\D\A\C\ is LOW. They are in the latched state when L\D\A\C\ is HIGH.", 14 ~{LOADREG} (in) "The selected input register becomes transparent when L\O\A\D\R\E\G\ is LOW. It is in the latched state when L\O\A\D\R\E\G\ is HIGH.", 15 ~{RESET} (in) "Asynchronous Reset Input. Sets DAC and input registers to either zero-scale (000H) or mid-scale (800H) when LOW. RESETSEL determines which code is active.", 16 RESETSEL (in) "When LOW, a LOW on R\E\S\E\T\ will cause the DAC and input registers to be set to code 000H. When RESETSEL is HIGH, a LOW on R\E\S\E\T\ will set the registers to code 800H."